# Altium footprint library SensWearComponents.PcbLib: 56 footprints (part 4 of 4)
Each footprint in its own frame and in the unit in brackets; x right, y up, seen from the top. Pads: shape width x height; smd on the part's side, far side on the other; paste and mask are expansions set on the pad; w line width, h text height; cw(c..) or ccw(c..) is an arc to the next point about the centre after c.
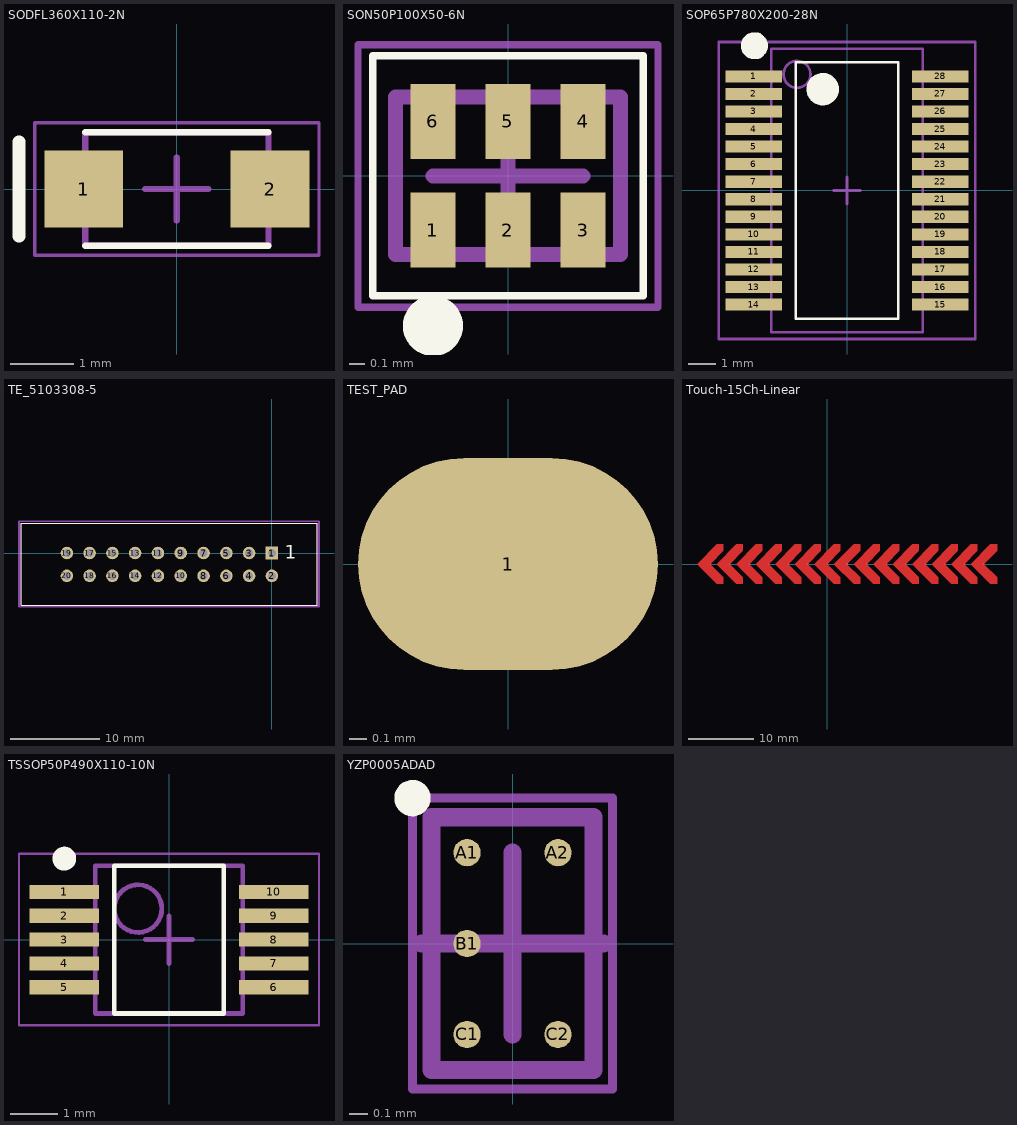
[diagram p3: the footprints below, top view; thin cyan lines are the x and y axes]

## SODFL360X110-2N [mm] "SODFL, 2-Leads, Body 1.65x3.60mm, IPC Medium Density"
height 1.1
pads (2):
  rect 1.25x1.22 smd: 1(-1.475,0) 2(1.475,0)
Top Overlay:
  lines w0.1: -1.45,-0.9 1.45,-0.9 ; -1.45,0.9 1.45,0.9
  lines w0.2: -2.5,-0.75 -2.5,0.75
Mechanical 13:
  lines w0.1: -1.45,-0.9 -1.45,0.9 1.45,0.9 1.45,-0.9 -1.45,-0.9
Mechanical 15:
  lines w0.05: -2.25,-1.05 2.25,-1.05 2.25,1.05 -2.25,1.05 -2.25,-1.05
  lines w0.1: -0.5,0 0.5,0 ; 0,-0.5 0,0.5
Mechanical 29:
  lines w0.05: -2.25,-1.05 -2.25,1.05 2.25,1.05 2.25,-1.05 -2.25,-1.05
  text ".Designator" at -0.35,-0.2 h0.4
3D body "SODFL360X110-2N.step": height 1.1, standoff 0, extent -1.8,-0.9 1.8,0.9

## SON50P100X50-6N [mm] "SON, 6-Leads, Body 1.45x1.00mm, Pitch 0.50mm, IPC Medium Density"
height 0.5
pads (6):
  rect 0.3x0.5 smd mask+0.05: 1(-0.5,-0.362) 2(0,-0.362) 3(0.5,-0.362) 4(0.5,0.363) 5(0,0.363) 6(-0.5,0.363)
Top Overlay:
  circle w0.3: c-0.5,-1 r0.05
  lines w0.05: -0.9,-0.8 -0.9,0.8 0.9,0.8 0.9,-0.8 -0.9,-0.8
Top Assembly:
  lines w0.05: -1,-0.875 1,-0.875 1,0.875 -1,0.875 -1,-0.875
  lines w0.1: -0.5,0 0.5,0 ; 0,-0.5 0,0.5
Top 3D Body:
  lines w0.1: -0.75,-0.525 -0.75,0.525 0.75,0.525 0.75,-0.525 -0.75,-0.525
Top Courtyard:
  lines w0.05: -1,-0.875 1,-0.875 1,0.875 -1,0.875 -1,-0.875
  text ".Designator" at -0.325,-0.175 h0.4
3D body "SON50P100X50-6N.step": height 0.5, standoff 0, extent -0.75,-0.535 0.75,0.535

## SOP65P780X200-28N [mm] "SOP, 28-Leads, Body 10,5x5,6mm (max), Pitch 0,65mm, IPC Medium Density"
height 2
pads (28):
  rect 2.1x0.45 smd paste+0 mask+0: 1(-3.45,4.225) 2(-3.45,3.575) 3(-3.45,2.925) 4(-3.45,2.275) 5(-3.45,1.625) 6(-3.45,0.975) 7(-3.45,0.325) 8(-3.45,-0.325) 9(-3.45,-0.975) 10(-3.45,-1.625) 11(-3.45,-2.275) 12(-3.45,-2.925) 13(-3.45,-3.575) 14(-3.45,-4.225) 15(3.45,-4.225) 16(3.45,-3.575) 17(3.45,-2.925) 18(3.45,-2.275) 19(3.45,-1.625) 20(3.45,-0.975) 21(3.45,-0.325) 22(3.45,0.325) 23(3.45,0.975) 24(3.45,1.625) 25(3.45,2.275) 26(3.45,2.925) 27(3.45,3.575) 28(3.45,4.225)
Top Overlay:
  circle w0.6: c-0.9,3.75 r0.3
  circle w0.5: c-3.425,5.359 r0.25
  lines w0.1: -1.9,-4.75 1.9,-4.75 1.9,4.75 -1.9,4.75 -1.9,-4.75
Mechanical 13:
  circle w0.1: c-1.85,4.3 r0.5
  lines w0.1: -2.8,-5.25 2.8,-5.25 2.8,5.25 -2.8,5.25 -2.8,-5.25
Mechanical 15:
  lines w0.1: -0.5,0 0.5,0 ; 0,-0.5 0,0.5 ; -4.75,-5.5 4.75,-5.5 4.75,5.5 -4.75,5.5 -4.75,-5.5
Mechanical 29:
  lines w0.1: -4.75,-5.5 -4.75,5.5 4.75,5.5 4.75,-5.5 -4.75,-5.5
  text ".Designator" at -0.425,-0.225 h0.5
3D body: height 2, standoff 0.05, extent -2.8,-5.25 2.8,5.25

## TE_5103308-5 [mm]
pads (20):
  rect 1.398x1.398 hole 0.89 mask+0: 1(0,0)
  round 1.398 hole 0.89 mask+0: 2(0,-2.54) 3(-2.54,0) 4(-2.54,-2.54) 5(-5.08,0) 6(-5.08,-2.54) 7(-7.62,0) 8(-7.62,-2.54) 9(-10.16,0) 10(-10.16,-2.54) 11(-12.7,0) 12(-12.7,-2.54) 13(-15.24,0) 14(-15.24,-2.54) 15(-17.78,0) 16(-17.78,-2.54) 17(-20.32,0) 18(-20.32,-2.54) 19(-22.86,0) 20(-22.86,-2.54)
Top Overlay:
  lines w0.127: -27.94,-5.842 -27.94,3.302 5.08,3.302 5.08,-5.842 -27.94,-5.842
  text "1" at 1.454,-0.646 h1.52
Mechanical 13:
  circle w0.3: c0,0 r0.15
  lines w0.127: -27.94,-5.842 -27.94,3.302 5.08,3.302 5.08,-5.842 -27.94,-5.842
Mechanical 15:
  lines w0.2: -28.19,-6 -28.19,3.552 5.25,3.552 5.25,-6 -28.19,-6
Mechanical 29:
  lines w0.2: -28.19,-6 -28.19,3.552 5.25,3.552 5.25,-6 -28.19,-6
  text ".Designator" at -12.246,-1.238 h1.52
3D body "c-5103308-5-b-3d.stp": height 9, standoff -3.9, extent -27.94,-5.842 5.08,3.302

## TEST_PAD [mm] "TRST PAD with no connection"
pads (1):
  oval 1.7x1.2 smd mask+0: 1(0,0)
3D body: height 1, standoff 0, extent -0.895,-0.649 0.4,0.649
3D body: height 1, standoff 0, extent -0.392,-0.649 0.903,0.649
3D body: height 1, standoff 0, extent -0.25,-0.6 0.253,0.6

## Touch-15Ch-Linear [mil]
pads (15):
  round 1 smd paste-15748 mask-15748: 1(-708.66,0) 2(-590.55,0) 3(-472.44,0) 4(-354.33,0) 5(-236.22,0) 6(-118.11,0) 7(0,0) 8(118.11,0) 9(236.22,0) 10(354.33,0) 11(472.44,0) 12(590.55,0) 13(708.66,0) 14(826.77,0) 15(944.88,0)
Top Layer:
  region: -669.29,-118.11 -787.4,0 -669.29,118.11 -629.92,118.11 -629.92,78.74 -708.66,0 -629.92,-78.74 -629.92,-118.11
  region: -551.18,-118.11 -669.29,0 -551.18,118.11 -511.81,118.11 -511.81,78.74 -590.55,0 -511.81,-78.74 -511.81,-118.11
  region: -433.07,-118.11 -551.18,0 -433.07,118.11 -393.7,118.11 -393.7,78.74 -472.44,0 -393.7,-78.74 -393.7,-118.11
  region: -314.96,-118.11 -433.07,0 -314.96,118.11 -275.59,118.11 -275.59,78.74 -354.33,0 -275.59,-78.74 -275.59,-118.11
  region: -196.85,-118.11 -314.96,0 -196.85,118.11 -157.48,118.11 -157.48,78.74 -236.22,0 -157.48,-78.74 -157.48,-118.11
  region: -78.74,-118.11 -196.85,0 -78.74,118.11 -39.37,118.11 -39.37,78.74 -118.11,0 -39.37,-78.74 -39.37,-118.11
  region: 39.37,-118.11 -78.74,0 39.37,118.11 78.74,118.11 78.74,78.74 0,0 78.74,-78.74 78.74,-118.11
  region: 275.59,-118.11 157.48,0 275.59,118.11 314.96,118.11 314.96,78.74 236.22,0 314.96,-78.74 314.96,-118.11
  region: 393.7,-118.11 275.59,0 393.7,118.11 433.07,118.11 433.07,78.74 354.33,0 433.07,-78.74 433.07,-118.11
  region: 511.81,-118.11 393.7,0 511.81,118.11 551.18,118.11 551.18,78.74 472.44,0 551.18,-78.74 551.18,-118.11
  region: 629.92,-118.11 511.81,0 629.92,118.11 669.29,118.11 669.29,78.74 590.55,0 669.29,-78.74 669.29,-118.11
  region: 748.03,-118.11 629.92,0 748.03,118.11 787.4,118.11 787.4,78.74 708.66,0 787.4,-78.74 787.4,-118.11
  region: 866.14,-118.11 748.03,0 866.14,118.11 905.51,118.11 905.51,78.74 826.77,0 905.51,-78.74 905.51,-118.11
  region: 984.25,-118.11 866.14,0 984.25,118.11 1023.62,118.11 1023.62,78.74 944.88,0 1023.62,-78.74 1023.62,-118.11
  region: 157.48,-118.11 39.37,0 157.48,118.11 196.85,118.11 196.85,78.74 118.11,0 196.85,-78.74 196.85,-118.11

## TSSOP50P490X110-10N [mm] "TSSOP, 10-Leads, Body 3.00x3.00mm, Pitch 0.50mm, IPC Medium Density"
height 1.1
pads (10):
  rect 1.45x0.3 smd paste+0 mask+0: 1(-2.2,1) 2(-2.2,0.5) 3(-2.2,0) 4(-2.2,-0.5) 5(-2.2,-1) 6(2.2,-1) 7(2.2,-0.5) 8(2.2,0) 9(2.2,0.5) 10(2.2,1)
Top Overlay:
  circle w0.25: c-2.2,1.7 r0.125
  lines w0.1: -1.15,-1.55 -1.15,1.55 1.15,1.55 1.15,-1.55 -1.15,-1.55
Mechanical 13:
  circle w0.1: c-0.65,0.65 r0.5
  lines w0.1: -1.55,-1.55 -1.55,1.55 1.55,1.55 1.55,-1.55 -1.55,-1.55
Mechanical 15:
  lines w0.05: -3.15,-1.8 3.15,-1.8 3.15,1.8 -3.15,1.8 -3.15,-1.8
  lines w0.1: -0.5,0 0.5,0 ; 0,-0.5 0,0.5
Mechanical 29:
  lines w0.05: -3.15,-1.8 -3.15,1.8 3.15,1.8 3.15,-1.8 -3.15,-1.8
  text ".Designator" at -0.4,-0.2 h0.5
3D body "TSSOP50P490X110-10N.step": height 1.1, standoff 0, extent -2.45,-1.55 2.45,1.55

## YZP0005ADAD [mm] "BGA, 5-Balls, Body 1.39x0.89mm, Pitch 0.5mm"
height 0.5
pads (5):
  round 0.15 smd: A1(-0.25,0.5) A2(0.25,0.5) B1(-0.25,0) C1(-0.25,-0.5) C2(0.25,-0.5)
Top Overlay:
  circle w0.1: c-0.55,0.8 r0.05
Mechanical 1:
  text ".Designator" at -0.05,0.375 h0.2
Mechanical 13:
  lines w0.1: -0.445,-0.695 0.445,-0.695 0.445,0.695 -0.445,0.695 -0.445,-0.695
Mechanical 15:
  lines w0.05: -0.55,-0.8 0.55,-0.8 0.55,0.8 -0.55,0.8 -0.55,-0.8
  lines w0.1: -0.5,0 0.5,0 ; 0,-0.5 0,0.5
3D body: height 0.5, standoff 0.15, extent -0.445,-0.695 0.445,0.695